# Altium schematic symbol library silicon-labs-pwr.SchLib: 1 symbol
Pins are listed as number, name and electrical type; pins without a type are passive.

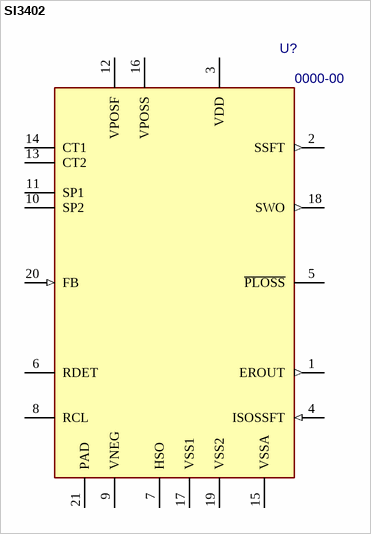
[diagram p0: symbol SI3402]

## SI3402
designator U?, comment 0000-00
802.3 PoE PD Interface; Value: SI3402; PN: 0000-00; Package: *; ExtraInfo: *
footprint 20-QFN (QFN, 20-Leads, Body 5.0x5.0mm (max), Pitch 0.80mm, IPC Medium Density)
pins: 1 EROUT (out), 2 SSFT (out), 3 VDD (power), 4 ISOSSFT (in), 5 ~{PLOSS} (oc), 6 RDET, 7 HSO, 8 RCL, 9 VNEG (power), 10 SP2 (power), 11 SP1 (power), 12 VPOSF (power), 13 CT2 (power), 14 CT1 (power), 15 VSSA (power), 16 VPOSS (power), 17 VSS1 (power), 18 SWO (out), 19 VSS2 (power), 20 FB (in), 21 PAD (power)